# EAGLE library part SSW-124-02-S-T (library con-samtec)
THROUGH-HOLE .025" SQ POST SOCKET Source: Samtec SSW.pdf
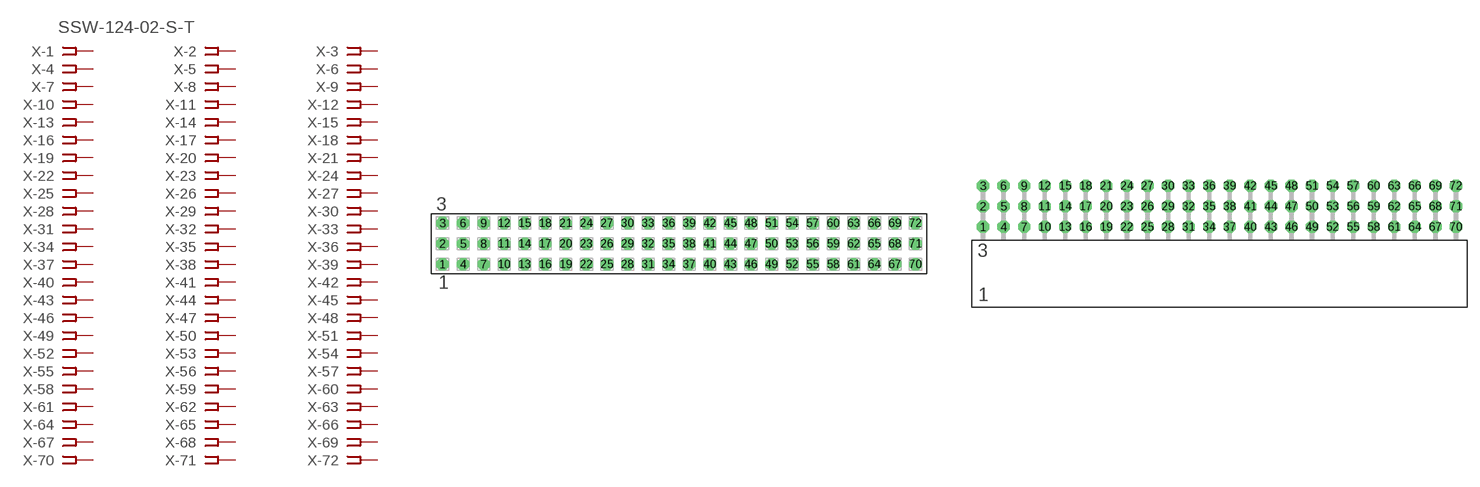
[diagram p32: symbol with the pads of SSW-124-02-S-T; footprints SSW-124-02-S-T, SSW-124-02-S-T-RA]

Designator prefix X; gates -1=FPINV -2=FPIN -3=FPIN -4=FPIN -5=FPIN -6=FPIN -7=FPIN -8=FPIN -9=FPIN -10=FPIN -11=FPIN -12=FPIN -13=FPIN -14=FPIN -15=FPIN -16=FPIN -17=FPIN -18=FPIN -19=FPIN -20=FPIN -21=FPIN -22=FPIN -23=FPIN -24=FPIN -25=FPIN -26=FPIN -27=FPIN -28=FPIN -29=FPIN -30=FPIN -31=FPIN -32=FPIN -33=FPIN -34=FPIN -35=FPIN -36=FPIN -37=FPIN -38=FPIN -39=FPIN -40=FPIN -41=FPIN -42=FPIN -43=FPIN -44=FPIN -45=FPIN -46=FPIN -47=FPIN -48=FPIN -49=FPIN -50=FPIN -51=FPIN -52=FPIN -53=FPIN -54=FPIN -55=FPIN -56=FPIN -57=FPIN -58=FPIN -59=FPIN -60=FPIN -61=FPIN -62=FPIN -63=FPIN -64=FPIN -65=FPIN -66=FPIN -67=FPIN -68=FPIN -69=FPIN -70=FPIN -71=FPIN -72=FPIN

## SSW-124-02-S-T  [SSW-124-02-S-T]
1  -1:1  pas
2  -2:1  pas
3  -3:1  pas
4  -4:1  pas
5  -5:1  pas
6  -6:1  pas
7  -7:1  pas
8  -8:1  pas
9  -9:1  pas
10  -10:1  pas
11  -11:1  pas
12  -12:1  pas
13  -13:1  pas
14  -14:1  pas
15  -15:1  pas
16  -16:1  pas
17  -17:1  pas
18  -18:1  pas
19  -19:1  pas
20  -20:1  pas
21  -21:1  pas
22  -22:1  pas
23  -23:1  pas
24  -24:1  pas
25  -25:1  pas
26  -26:1  pas
27  -27:1  pas
28  -28:1  pas
29  -29:1  pas
30  -30:1  pas
31  -31:1  pas
32  -32:1  pas
33  -33:1  pas
34  -34:1  pas
35  -35:1  pas
36  -36:1  pas
37  -37:1  pas
38  -38:1  pas
39  -39:1  pas
40  -40:1  pas
41  -41:1  pas
42  -42:1  pas
43  -43:1  pas
44  -44:1  pas
45  -45:1  pas
46  -46:1  pas
47  -47:1  pas
48  -48:1  pas
49  -49:1  pas
50  -50:1  pas
51  -51:1  pas
52  -52:1  pas
53  -53:1  pas
54  -54:1  pas
55  -55:1  pas
56  -56:1  pas
57  -57:1  pas
58  -58:1  pas
59  -59:1  pas
60  -60:1  pas
61  -61:1  pas
62  -62:1  pas
63  -63:1  pas
64  -64:1  pas
65  -65:1  pas
66  -66:1  pas
67  -67:1  pas
68  -68:1  pas
69  -69:1  pas
70  -70:1  pas
71  -71:1  pas
72  -72:1  pas

## SSW-124-02-S-TRA  [SSW-124-02-S-T-RA]
Pads as for SSW-124-02-S-T

## Footprint SSW-124-02-S-T (pad centres in mm)
THROUGH-HOLE .025" SQ POST SOCKET Source: Samtec SSW.pdf
drill 1 pad 1.5 octagon: 1 -29.21,-2.54; 2 -29.21,0; 3 -29.21,2.54; 4 -26.67,-2.54; 5 -26.67,0; 6 -26.67,2.54; 7 -24.13,-2.54; 8 -24.13,0; 9 -24.13,2.54; 10 -21.59,-2.54; 11 -21.59,0; 12 -21.59,2.54; 13 -19.05,-2.54; 14 -19.05,0; 15 -19.05,2.54; 16 -16.51,-2.54; 17 -16.51,0; 18 -16.51,2.54; 19 -13.97,-2.54; 20 -13.97,0; 21 -13.97,2.54; 22 -11.43,-2.54; 23 -11.43,0; 24 -11.43,2.54; 25 -8.89,-2.54; 26 -8.89,0; 27 -8.89,2.54; 28 -6.35,-2.54; 29 -6.35,0; 30 -6.35,2.54; 31 -3.81,-2.54; 32 -3.81,0; 33 -3.81,2.54; 34 -1.27,-2.54; 35 -1.27,0; 36 -1.27,2.54; 37 1.27,-2.54; 38 1.27,0; 39 1.27,2.54; 40 3.81,-2.54; 41 3.81,0; 42 3.81,2.54; 43 6.35,-2.54; 44 6.35,0; 45 6.35,2.54; 46 8.89,-2.54; 47 8.89,0; 48 8.89,2.54; 49 11.43,-2.54; 50 11.43,0; 51 11.43,2.54; 52 13.97,-2.54; 53 13.97,0; 54 13.97,2.54; 55 16.51,-2.54; 56 16.51,0; 57 16.51,2.54; 58 19.05,-2.54; 59 19.05,0; 60 19.05,2.54; 61 21.59,-2.54; 62 21.59,0; 63 21.59,2.54; 64 24.13,-2.54; 65 24.13,0; 66 24.13,2.54; 67 26.67,-2.54; 68 26.67,0; 69 26.67,2.54; 70 29.21,-2.54; 71 29.21,0; 72 29.21,2.54

## Footprint SSW-124-02-S-T-RA (pad centres in mm)
THROUGH-HOLE .025" SQ POST SOCKET Source: Samtec SSW.pdf
drill 1 pad 1.5 octagon: 1 -29.21,1.524; 2 -29.21,4.064; 3 -29.21,6.604; 4 -26.67,1.524; 5 -26.67,4.064; 6 -26.67,6.604; 7 -24.13,1.524; 8 -24.13,4.064; 9 -24.13,6.604; 10 -21.59,1.524; 11 -21.59,4.064; 12 -21.59,6.604; 13 -19.05,1.524; 14 -19.05,4.064; 15 -19.05,6.604; 16 -16.51,1.524; 17 -16.51,4.064; 18 -16.51,6.604; 19 -13.97,1.524; 20 -13.97,4.064; 21 -13.97,6.604; 22 -11.43,1.524; 23 -11.43,4.064; 24 -11.43,6.604; 25 -8.89,1.524; 26 -8.89,4.064; 27 -8.89,6.604; 28 -6.35,1.524; 29 -6.35,4.064; 30 -6.35,6.604; 31 -3.81,1.524; 32 -3.81,4.064; 33 -3.81,6.604; 34 -1.27,1.524; 35 -1.27,4.064; 36 -1.27,6.604; 37 1.27,1.524; 38 1.27,4.064; 39 1.27,6.604; 40 3.81,1.524; 41 3.81,4.064; 42 3.81,6.604; 43 6.35,1.524; 44 6.35,4.064; 45 6.35,6.604; 46 8.89,1.524; 47 8.89,4.064; 48 8.89,6.604; 49 11.43,1.524; 50 11.43,4.064; 51 11.43,6.604; 52 13.97,1.524; 53 13.97,4.064; 54 13.97,6.604; 55 16.51,1.524; 56 16.51,4.064; 57 16.51,6.604; 58 19.05,1.524; 59 19.05,4.064; 60 19.05,6.604; 61 21.59,1.524; 62 21.59,4.064; 63 21.59,6.604; 64 24.13,1.524; 65 24.13,4.064; 66 24.13,6.604; 67 26.67,1.524; 68 26.67,4.064; 69 26.67,6.604; 70 29.21,1.524; 71 29.21,4.064; 72 29.21,6.604